# Altium footprint library Optocoupler.PcbLib: 2 footprints
Each footprint in its own frame and in the unit in brackets; x right, y up, seen from the top. Pads: shape width x height; smd on the part's side, far side on the other; paste and mask are expansions set on the pad; w line width, h text height; cw(c..) or ccw(c..) is an arc to the next point about the centre after c.
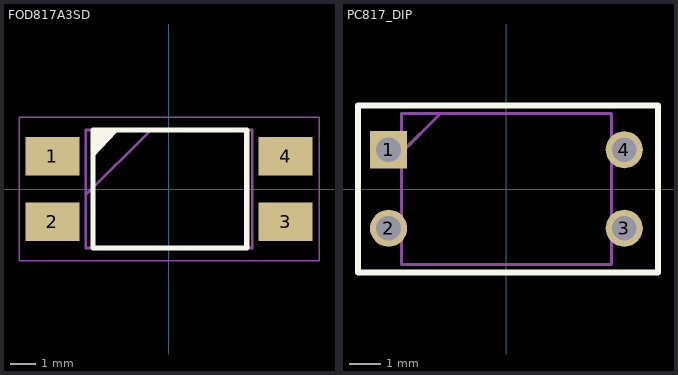
[diagram p0: the footprints below, top view; thin cyan lines are the x and y axes]

## FOD817A3SD [mm]
pads (4):
  rect 2.1x1.5 smd: 1(-4.55,1.27) 2(-4.55,-1.27) 3(4.55,-1.27) 4(4.55,1.27)
Top Overlay:
  lines w0.1: -3.002,1.336 -2.143,2.257 ; -2.994,1.379 -2.958,2.2 -2.924,1.422 -2.884,2.21 -2.881,1.442 -2.814,2.183 -2.791,1.563 -2.744,2.247 -2.717,1.663 -2.664,2.243 -2.661,1.723 -2.621,2.22 -2.594,1.763 -2.537,2.237 -2.511,1.84 -2.494,2.28 -2.43,1.953 -2.424,2.243 -2.367,1.99 -2.334,2.247 -2.3,2.056 -2.247,2.237 -2.184,2.227 -2.19,2.2 -2.254,2.123 -2.414,1.96 -2.521,1.886 -2.617,1.806 ; -2.957,1.294 -2.065,2.244
  lines w0.2: -2.969,-2.3 3.031,-2.3 3.031,2.3 -2.969,2.3 -2.969,-2.3
Mechanical 13:
  lines w0.1: -3.25,-0.24 -0.71,2.3 ; -3.25,-2.3 3.25,-2.3 3.25,2.3 -3.25,2.3 -3.25,-2.3
Mechanical 15:
  lines w0.05: -5.85,-2.8 5.85,-2.8 5.85,2.8 -5.85,2.8 -5.85,-2.8
3D body "FOD817A3SD.stp": height 3.84, standoff -0.01, extent -5.23,-2.57 5.23,2.53

## PC817_DIP [mm] "DIP-4 Transistor Output Optocoupler"
pads (4):
  rect 1.2x1.2 hole 0.8: 1(-3.81,1.27)
  round 1.2 hole 0.8: 2(-3.81,-1.27) 3(3.81,-1.27) 4(3.81,1.27)
Top Overlay:
  lines w0.2: -4.8,-2.7 -4.8,2.7 -4.6,2.7 4.6,2.7 4.9,2.7 4.9,-2.7 -4.8,-2.7
Mechanical 13:
  lines w0.1: -3.4,1.17 -2.13,2.44 ; -3.4,-2.44 -3.4,2.44 3.4,2.44 3.4,-2.44 -3.4,-2.44
Mechanical 15:
  lines w0.05: -4.8,-2.7 -4.8,2.7 4.9,2.7 4.9,-2.7 -4.8,-2.7
3D body "PC817X2NSZ0F.stp": height 4, standoff -3.5, extent -3.96,-2.29 3.96,2.29